# Altium footprint library SO-8_PPAD.PcbLib: 1 footprints
Each footprint in its own frame and in the unit in brackets; x right, y up, seen from the top. Pads: shape width x height; smd on the part's side, far side on the other; paste and mask are expansions set on the pad; w line width, h text height; cw(c..) or ccw(c..) is an arc to the next point about the centre after c.
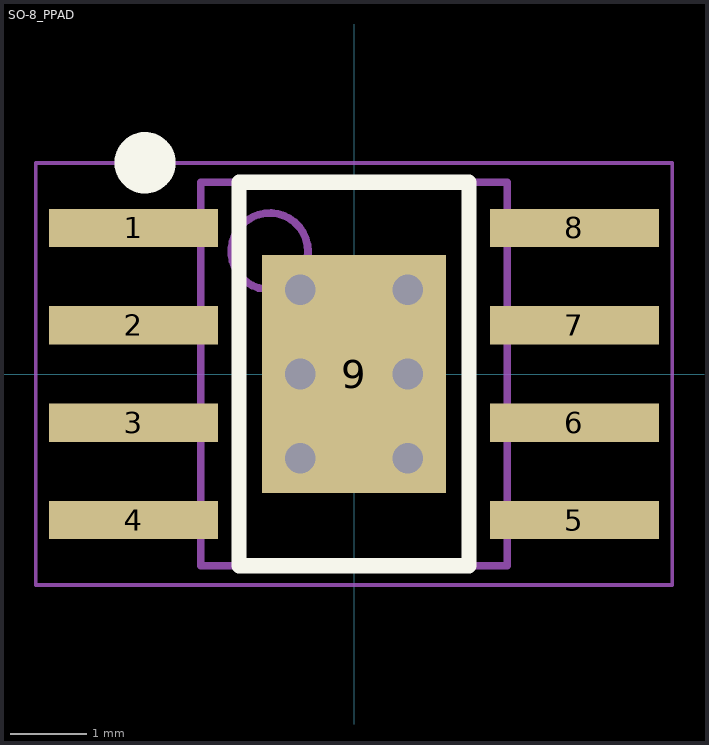
[diagram p0: the footprint, top view; thin cyan lines are the x and y axes]

## SO-8_PPAD [mm]
pads (9):
  rect 2.2x0.5 smd: 1(-2.875,1.905) 2(-2.875,0.635) 3(-2.875,-0.635) 4(-2.875,-1.905) 5(2.875,-1.905) 6(2.875,-0.635) 7(2.875,0.635) 8(2.875,1.905)
  rect 2.4x3.1 smd: 9(0,0)
via -0.7,-1.1 diameter 0.7 hole 0.4
via 0.7,-1.1 diameter 0.7 hole 0.4
via 0.7,0 diameter 0.7 hole 0.4
via -0.7,0 diameter 0.7 hole 0.4
via -0.7,1.1 diameter 0.7 hole 0.4
via 0.7,1.1 diameter 0.7 hole 0.4
Top Overlay:
  circle w0.4: c-2.725,2.755 r0.2
  lines w0.2: -1.5,-2.5 -1.5,2.5 1.5,2.5 1.5,-2.5 -1.5,-2.5
Mechanical 13:
  circle w0.1: c-1.1,1.6 r0.5
  lines w0.1: -2,-2.5 -2,2.5 2,2.5 2,-2.5 -2,-2.5
Mechanical 15:
  lines w0.05: -4.15,-2.75 -4.15,2.75 4.15,2.75 4.15,-2.75 -4.15,-2.75
  lines w0.1: -0.5,0 0.5,0 ; 0,-0.5 0,0.5
3D body "SOIC08 narrow.stp": height 2, standoff 0, extent -3.082,-2.5 3.081,2.5